# Altium footprint library MX.PcbLib: 64 footprints (part 1 of 4)
Each footprint in its own frame and in the unit in brackets; x right, y up, seen from the top. Pads: shape width x height; smd on the part's side, far side on the other; paste and mask are expansions set on the pad; w line width, h text height; cw(c..) or ccw(c..) is an arc to the next point about the centre after c.
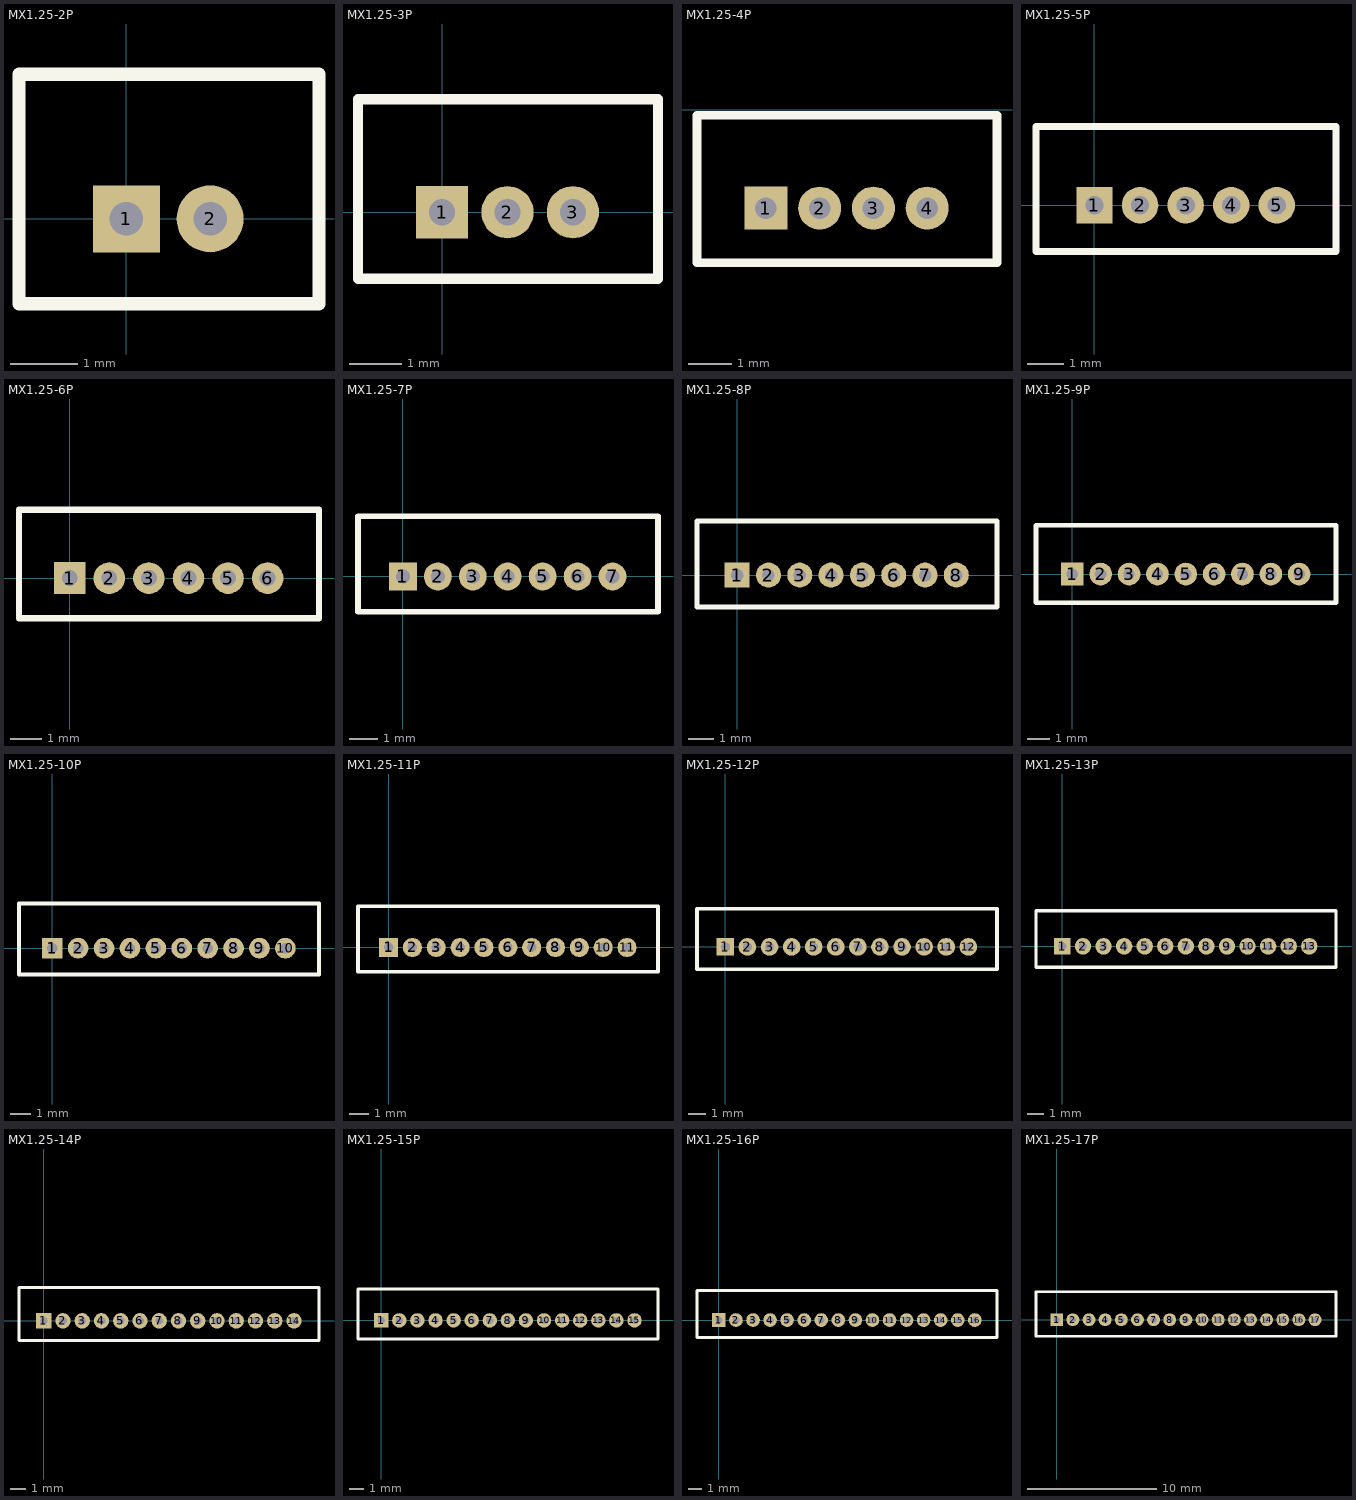
[diagram p0: the footprints below, top view; thin cyan lines are the x and y axes]

## MX1.25-2P [mm]
pads (2):
  rect 1x1 hole 0.5: 1(0,0)
  round 1 hole 0.5: 2(1.25,0)
Top Overlay:
  lines w0.2: -1.604,-1.27 2.874,-1.27 2.874,2.159 -1.604,2.159 -1.604,-1.27
3D body "MX 1.25-LI-2P.STEP": height 4.25, standoff -2.35, extent -1.473,-1.168 2.777,2.032

## MX1.25-3P [mm]
pads (3):
  rect 1x1 hole 0.5: 1(0,0)
  round 1 hole 0.5: 2(1.25,0) 3(2.5,0)
Top Overlay:
  lines w0.2: -1.604,-1.27 -1.604,2.159 4.124,2.159 4.124,-1.27 -1.604,-1.27
3D body "MX 1.25-LI-3P.STEP": height 4.25, standoff -2.35, extent -1.499,-1.168 4.001,2.032

## MX1.25-4P [mm]
pads (4):
  rect 1x1 hole 0.5: 1(2.941,-2.286)
  round 1 hole 0.5: 2(4.191,-2.286) 3(5.441,-2.286) 4(6.691,-2.286)
Top Overlay:
  lines w0.2: 1.337,-3.556 1.337,-0.127 8.315,-0.127 8.315,-3.556 1.337,-3.556
3D body "MX 1.25-LI-4P.STEP": height 4.25, standoff -2.35, extent 1.448,-3.454 8.198,-0.254

## MX1.25-5P [mm]
pads (5):
  rect 1x1 hole 0.5: 1(0,0)
  round 1 hole 0.5: 2(1.25,0) 3(2.5,0) 4(3.75,0) 5(5,0)
Top Overlay:
  lines w0.2: -1.604,-1.27 6.624,-1.27 6.624,2.159 -1.604,2.159 -1.604,-1.27
3D body "MX 1.25-LI-5P.STEP": height 4.25, standoff -2.35, extent -1.499,-1.168 6.501,2.032

## MX1.25-6P [mm]
pads (6):
  rect 1x1 hole 0.5: 1(0,0)
  round 1 hole 0.5: 2(1.25,0) 3(2.5,0) 4(3.75,0) 5(5,0) 6(6.25,0)
Top Overlay:
  lines w0.2: -1.604,-1.27 7.874,-1.27 7.874,2.159 -1.604,2.159 -1.604,-1.27
3D body "MX 1.25-LI-6P.STEP": height 4.25, standoff -2.35, extent -1.499,-1.168 7.751,2.032

## MX1.25-7P [mm]
pads (7):
  rect 1x1 hole 0.5: 1(0,0)
  round 1 hole 0.5: 2(1.25,0) 3(2.5,0) 4(3.75,0) 5(5,0) 6(6.25,0) 7(7.5,0)
Top Overlay:
  lines w0.2: -1.604,-1.27 -1.604,2.159 9.124,2.159 9.124,-1.27 -1.604,-1.27
3D body "MX 1.25-LI-7P.STEP": height 4.25, standoff -2.35, extent -1.508,-1.143 8.992,2.057

## MX1.25-8P [mm]
pads (8):
  rect 1x1 hole 0.5: 1(0,0)
  round 1 hole 0.5: 2(1.25,0) 3(2.5,0) 4(3.75,0) 5(5,0) 6(6.25,0) 7(7.5,0) 8(8.75,0)
Top Overlay:
  lines w0.2: -1.604,-1.27 -1.604,2.159 10.374,2.159 10.374,-1.27 -1.604,-1.27
3D body "MX 1.25-LI-8P.STEP": height 4.25, standoff -2.35, extent -1.514,-1.143 10.236,2.057

## MX1.25-9P [mm]
pads (9):
  rect 1x1 hole 0.5: 1(0,0)
  round 1 hole 0.5: 2(1.25,0) 3(2.5,0) 4(3.75,0) 5(5,0) 6(6.25,0) 7(7.5,0) 8(8.75,0) 9(10,0)
Top Overlay:
  lines w0.2: -1.604,-1.27 11.624,-1.27 11.624,2.159 -1.604,2.159 -1.604,-1.27
3D body "MX 1.25-LI-9P.STEP": height 4.25, standoff -2.35, extent -1.499,-1.168 11.501,2.032

## MX1.25-10P [mm]
pads (10):
  rect 1x1 hole 0.5: 1(0,0)
  round 1 hole 0.5: 2(1.25,0) 3(2.5,0) 4(3.75,0) 5(5,0) 6(6.25,0) 7(7.5,0) 8(8.75,0) 9(10,0) 10(11.25,0)
Top Overlay:
  lines w0.2: -1.604,-1.27 -1.604,2.159 12.874,2.159 12.874,-1.27 -1.604,-1.27
Mechanical 15:
  lines w0.05: 5.135,0 6.135,0
3D body "MX 1.25-LI-10P.STEP": height 4.25, standoff -2.35, extent -1.499,-1.168 12.751,2.032

## MX1.25-11P [mm]
pads (11):
  rect 1x1 hole 0.5: 1(0,0)
  round 1 hole 0.5: 2(1.25,0) 3(2.5,0) 4(3.75,0) 5(5,0) 6(6.25,0) 7(7.5,0) 8(8.75,0) 9(10,0) 10(11.25,0) 11(12.5,0)
Top Overlay:
  lines w0.2: -1.604,-1.27 14.124,-1.27 14.124,2.159 -1.604,2.159 -1.604,-1.27
3D body "MX 1.25-LI-11P.STEP": height 4.25, standoff -2.35, extent -1.499,-1.168 14.001,2.032

## MX1.25-12P [mm]
pads (12):
  rect 1x1 hole 0.5: 1(0,0)
  round 1 hole 0.5: 2(1.25,0) 3(2.5,0) 4(3.75,0) 5(5,0) 6(6.25,0) 7(7.5,0) 8(8.75,0) 9(10,0) 10(11.25,0) 11(12.5,0) 12(13.75,0)
Top Overlay:
  lines w0.2: -1.604,-1.27 -1.604,2.159 15.374,2.159 15.374,-1.27 -1.604,-1.27
3D body "MX 1.25-LI-12P.STEP": height 4.25, standoff -2.35, extent -1.499,-1.143 15.251,2.057

## MX1.25-13P [mm]
pads (13):
  rect 1x1 hole 0.5: 1(0,0)
  round 1 hole 0.5: 2(1.25,0) 3(2.5,0) 4(3.75,0) 5(5,0) 6(6.25,0) 7(7.5,0) 8(8.75,0) 9(10,0) 10(11.25,0) 11(12.5,0) 12(13.75,0) 13(15,0)
Top Overlay:
  lines w0.2: -1.604,-1.27 16.624,-1.27 16.624,2.159 -1.604,2.159 -1.604,-1.27
3D body "MX 1.25-LI-13P.STEP": height 4.25, standoff -2.35, extent -1.499,-1.168 16.501,2.032

## MX1.25-14P [mm]
pads (14):
  rect 1x1 hole 0.5: 1(0,0)
  round 1 hole 0.5: 2(1.25,0) 3(2.5,0) 4(3.75,0) 5(5,0) 6(6.25,0) 7(7.5,0) 8(8.75,0) 9(10,0) 10(11.25,0) 11(12.5,0) 12(13.75,0) 13(15,0) 14(16.25,0)
Top Overlay:
  lines w0.2: -1.604,-1.27 17.874,-1.27 17.874,2.159 -1.604,2.159 -1.604,-1.27
3D body "MX 1.25-LI-14P.STEP": height 4.25, standoff -2.35, extent -1.499,-1.143 17.751,2.057

## MX1.25-15P [mm]
pads (15):
  rect 1x1 hole 0.5: 1(0,0)
  round 1 hole 0.5: 2(1.25,0) 3(2.5,0) 4(3.75,0) 5(5,0) 6(6.25,0) 7(7.5,0) 8(8.75,0) 9(10,0) 10(11.25,0) 11(12.5,0) 12(13.75,0) 13(15,0) 14(16.25,0) 15(17.5,0)
Top Overlay:
  lines w0.2: -1.604,-1.27 19.124,-1.27 19.124,2.159 -1.604,2.159 -1.604,-1.27
3D body "MX 1.25-LI-15P.STEP": height 4.25, standoff -2.35, extent -1.499,-1.168 19.001,2.032

## MX1.25-16P [mm]
pads (16):
  rect 1x1 hole 0.5: 1(0,0)
  round 1 hole 0.5: 2(1.25,0) 3(2.5,0) 4(3.75,0) 5(5,0) 6(6.25,0) 7(7.5,0) 8(8.75,0) 9(10,0) 10(11.25,0) 11(12.5,0) 12(13.75,0) 13(15,0) 14(16.25,0) 15(17.5,0) 16(18.75,0)
Top Overlay:
  lines w0.2: -1.604,-1.27 -1.604,2.159 20.374,2.159 20.374,-1.27 -1.604,-1.27
3D body "MX 1.25-LI-16P.STEP": height 4.25, standoff -2.35, extent -1.499,-1.143 20.251,2.057

## MX1.25-17P [mm]
pads (17):
  rect 1x1 hole 0.5: 1(0,0)
  round 1 hole 0.5: 2(1.25,0) 3(2.5,0) 4(3.75,0) 5(5,0) 6(6.25,0) 7(7.5,0) 8(8.75,0) 9(10,0) 10(11.25,0) 11(12.5,0) 12(13.75,0) 13(15,0) 14(16.25,0) 15(17.5,0) 16(18.75,0) 17(20,0)
Top Overlay:
  lines w0.2: -1.604,-1.27 21.624,-1.27 21.624,2.159 -1.604,2.159 -1.604,-1.27
3D body "MX 1.25-LI-17P.STEP": height 4.25, standoff -2.35, extent -1.499,-1.143 21.501,2.057